# Altium footprint library 2111200440000070.PcbLib: 1 footprints
Each footprint in its own frame and in the unit in brackets; x right, y up, seen from the top. Pads: shape width x height; smd on the part's side, far side on the other; paste and mask are expansions set on the pad; w line width, h text height; cw(c..) or ccw(c..) is an arc to the next point about the centre after c.
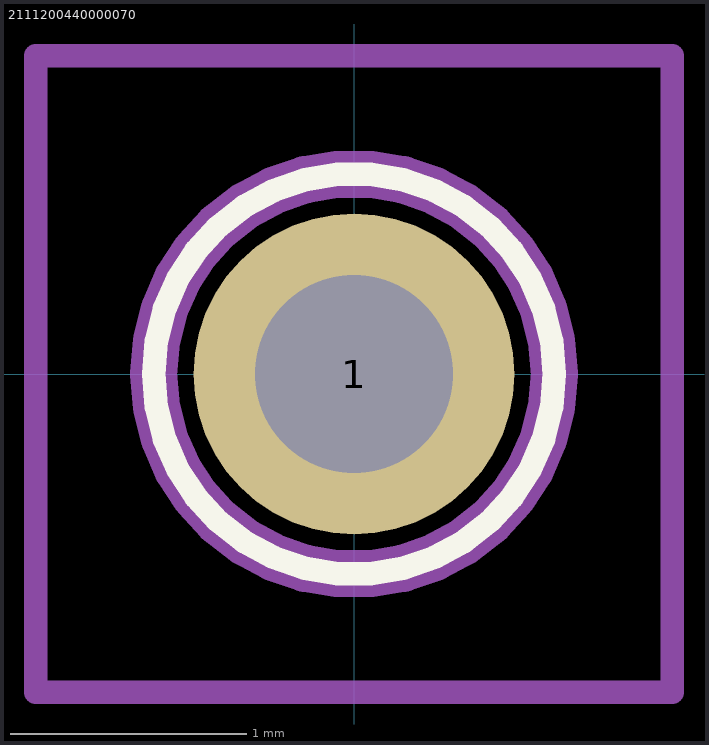
[diagram p0: the footprint, top view; thin cyan lines are the x and y axes]

## 2111200440000070 [mil]
pads (1):
  round 53.62 hole 33: 1(0,0)
Top Overlay:
  lines w3.94: -33.46,0 -33.46,0 ; -33.46,0 cw(c0,0) 33.46,0 ; -33.46,0 ccw(c0,0) 33.46,0 ; 33.46,0 33.46,0
Mechanical 15:
  lines w7.87: -33.46,0 -33.46,0 ; -33.46,0 cw(c0,0) 33.46,0 ; -33.46,0 ccw(c0,0) 33.46,0 ; 33.46,0 33.46,0
Mechanical 20:
  lines w3.94: -53.15,-53.15 53.15,-53.15 53.15,53.15 -53.15,53.15 -53.15,-53.15